# EAGLE library part MKDS1/8-3,5 (library con-phoenix-350)
MKDS 1/8-3,5 - Order No. 1751303 Pitch: 3,5mm Number of terminals: 8 Rated Voltage: 160V Maximum load current/ cross section: 12A/1.5mm2-AWG16 Housing Interlocking: none Color: Green
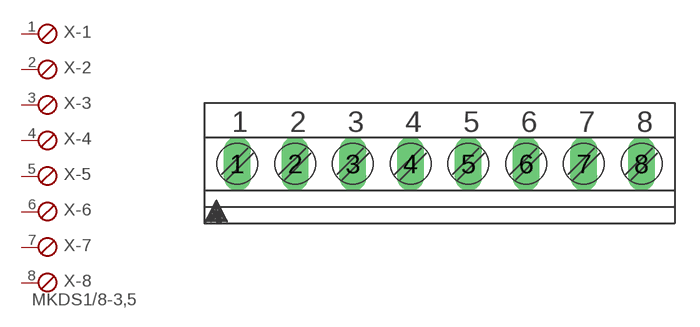
[diagram p2: symbol with the pads of 8POL350; footprint 8POL350]

Designator prefix X; gates -1=SKB -2=SKB -3=SKB -4=SKB -5=SKB -6=SKB -7=SKB -8=SKBV

## MKDS1/8-3,5  [8POL350]
1  -1:1  pas
2  -2:1  pas
3  -3:1  pas
4  -4:1  pas
5  -5:1  pas
6  -6:1  pas
7  -7:1  pas
8  -8:1  pas

## Footprint 8POL350 (pad centres in mm)
PHOENIX CONNECTOR 8 POL 3.50
drill 1.1 long: 1 0,0; 2 3.5,0; 3 7,0; 4 10.5,0; 5 14,0; 6 17.5,0; 7 21,0; 8 24.5,0